# Altium footprint library PCB2.PcbLib: 56 footprints (part 4 of 4)
Each footprint in its own frame and in the unit in brackets; x right, y up, seen from the top. Pads: shape width x height; smd on the part's side, far side on the other; paste and mask are expansions set on the pad; w line width, h text height; cw(c..) or ccw(c..) is an arc to the next point about the centre after c.
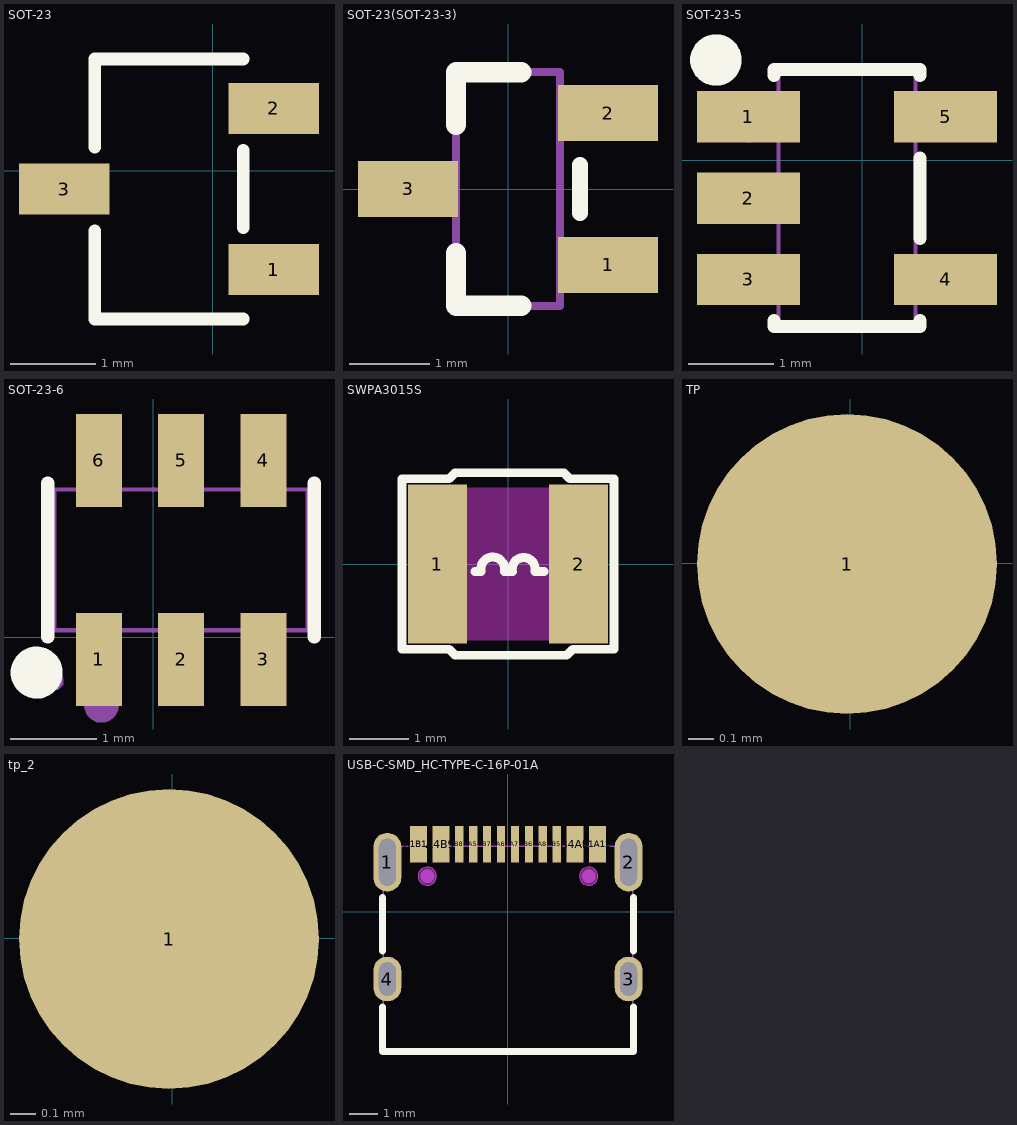
[diagram p3: the footprints below, top view; thin cyan lines are the x and y axes]

## SOT-23 [mm]
height 6.86
pads (3):
  rect 1.07x0.6 smd: 1(0.719,-1.166) 2(0.719,0.734) 3(-1.751,-0.216)
Top Overlay:
  lines w0.152: -1.392,-0.711 -1.392,-1.753 0.36,-1.753 ; -1.392,0.278 -1.392,1.32 0.36,1.32 ; 0.36,-0.672 0.36,0.239

## SOT-23(SOT-23-3) [mm]
height 6.86
pads (3):
  rect 1.25x0.7 smd: 1(1.25,-0.95) 2(1.25,0.95) 3(-1.25,0)
Top Overlay:
  lines w0.2: 0.9,-0.3 0.9,0.3
  lines w0.254: -0.65,-0.8 -0.65,-1.46 0.165,-1.46 ; 0.165,1.46 -0.65,1.46 ; -0.65,0.8 -0.65,1.46 ; -0.65,0.8 -0.65,1.46 ; -0.65,0.8 -0.65,1.46
Mechanical 13:
  lines w0.1: -0.65,-1.46 -0.65,1.46 ; -0.65,-1.46 0.65,-1.46 ; -0.65,-1.46 -0.65,1.46 ; -0.65,-1.46 0.65,-1.46 ; -0.65,-1.46 0.65,-1.46 ; -0.65,-1.46 -0.65,1.46 ; -0.65,1.46 0.65,1.46 ; -0.65,1.46 0.65,1.46 ; -0.65,1.46 0.65,1.46 ; 0.65,-1.46 0.65,1.46 ; 0.65,-1.46 0.65,1.46 ; 0.65,-1.46 0.65,1.46
3D body "SOT-23.step": height 1.3, standoff 0, extent -1.5,-1.5 1.5,1.5

## SOT-23-5 [mm]
height 6.86
pads (5):
  rect 1.2x0.6 smd paste+0 mask+0.05: 1(-1.325,0.51) 2(-1.325,-0.44) 3(-1.325,-1.39) 4(0.975,-1.39) 5(0.975,0.51)
Top Overlay:
  circle w0.3: c-1.704,1.171 r0.15
  lines w0.152: -1.025,-1.87 -1.025,-1.94 0.675,-1.94 0.675,-1.87 ; -1.025,0.99 -1.025,1.06 0.675,1.06 0.675,0.99 ; 0.675,-0.91 0.675,0.03
Mechanical 6:
  circle w0.3: c-1.325,0.51 r0.15
Mechanical 15:
  region: 1.225,-1.19 1.225,-1.59 0.775,-1.59 0.775,-1.19
  region: 0.785,-1.19 0.785,-1.59 0.615,-1.59 0.615,-1.19
  region: 1.225,0.71 1.225,0.31 0.775,0.31 0.775,0.71
  region: 0.785,0.71 0.785,0.31 0.615,0.31 0.615,0.71
  region: -1.125,0.71 -1.125,0.31 -1.575,0.31 -1.575,0.71
  region: -0.965,0.71 -0.965,0.31 -1.135,0.31 -1.135,0.71
  region: -1.125,-0.24 -1.125,-0.64 -1.575,-0.64 -1.575,-0.24
  region: -0.965,-0.24 -0.965,-0.64 -1.135,-0.64 -1.135,-0.24
  region: -1.125,-1.19 -1.125,-1.59 -1.575,-1.59 -1.575,-1.19
  region: -0.965,-1.19 -0.965,-1.59 -1.135,-1.59 -1.135,-1.19
  region: -1.635,1.01 -1.635,0.985 -1.6,0.95 -1.55,0.95 -1.515,0.985 -1.515,1.01 -1.515,1.035 -1.55,1.07 -1.6,1.07 -1.635,1.035
  lines w0.051: -0.975,-1.89 -0.975,1.01 0.625,1.01 0.625,-1.89 -0.975,-1.89

## SOT-23-6 [mm]
height 6.86
pads (6):
  rect 0.532x1.072 smd mask+0.051: 1(-0.63,-0.258) 2(0.32,-0.258) 3(1.27,-0.258) 4(1.27,2.04) 5(0.32,2.04) 6(-0.63,2.04)
Top Overlay:
  circle w0.3: c-1.348,-0.41 r0.15
  lines w0.152: -1.219,0.002 -1.219,1.78 ; 1.859,0.002 1.859,1.78
Mechanical 6:
  circle w0.2: c-0.6,-0.789 r0.1
Mechanical 15:
  region: -0.845,1.826 -0.415,1.826 -0.415,1.694 -0.845,1.694
  region: -0.845,1.816 -0.415,1.816 -0.415,2.291 -0.845,2.291
  region: 0.105,1.826 0.535,1.826 0.535,1.694 0.105,1.694
  region: 0.105,1.816 0.535,1.816 0.535,2.291 0.105,2.291
  region: 1.055,1.826 1.485,1.826 1.485,1.694 1.055,1.694
  region: 1.055,1.816 1.485,1.816 1.485,2.291 1.055,2.291
  region: 1.055,0.088 1.485,0.088 1.485,-0.044 1.055,-0.044
  region: 1.055,-0.034 1.485,-0.034 1.485,-0.509 1.055,-0.509
  region: 0.105,0.088 0.535,0.088 0.535,-0.044 0.105,-0.044
  region: 0.105,-0.034 0.535,-0.034 0.535,-0.509 0.105,-0.509
  region: -0.845,0.088 -0.415,0.088 -0.415,-0.044 -0.845,-0.044
  region: -0.845,-0.034 -0.415,-0.034 -0.415,-0.509 -0.845,-0.509
  region: -1.043,-0.509 -1.043,-0.467 -1.102,-0.409 -1.185,-0.409 -1.243,-0.467 -1.243,-0.509 -1.243,-0.55 -1.185,-0.609 -1.102,-0.609 -1.043,-0.55
  lines w0.051: -1.143,0.078 -1.143,1.704 1.783,1.704 1.783,0.078 -1.143,0.078

## SWPA3015S [mm]
height 6.86
pads (2):
  rect 1x2.7 smd: 1(-1.2,0) 2(1.2,0)
Top Layer keep-out:
  region: -1.7,1.3 1.7,1.3 1.7,-1.3 -1.7,-1.3
Top Overlay:
  lines w0.15: -1.8,-1.45 -1.8,1.45 -1,1.45 -0.9,1.55 0.95,1.55 1.05,1.45 1.8,1.45 1.8,-1.45 1.1,-1.45 1,-1.55 -0.9,-1.55 -1,-1.45 -1.8,-1.45
  lines w0.152: -0.559,-0.127 -0.457,-0.127 cw(c-0.26,-0.083) -0.063,-0.127 0.038,-0.127 ; -0.051,-0.127 0.076,-0.127 cw(c0.267,-0.085) 0.457,-0.127 0.61,-0.127

## TP [mm]
height 6.86
pads (1):
  round 1.2 smd: 1(-0.013,-0.003)

## tp_2 [mm]
pads (1):
  round 1.2 smd: 1(-0.013,-0.003)

## USB-C-SMD_HC-TYPE-C-16P-01A [mm]
height 6.86
pads (16):
  oval 1x2.1 hole 0.6 slot 1.7 at 90 deg: 1(-4.32,1.77) 2(4.32,1.77)
  oval 1x1.6 hole 0.6 slot 1.2 at 90 deg: 3(4.32,-2.41) 4(-4.32,-2.41)
  rect 0.6x1.3 smd: A1B12(-3.2,2.41) A4B9(-2.4,2.41) B1A12(3.2,2.41) B4A9(2.4,2.41)
  rect 0.3x1.3 smd: A5(-1.25,2.41) A6(-0.25,2.41) A7(0.25,2.41) A8(1.25,2.41) B5(1.75,2.41) B6(0.75,2.41) B7(-0.75,2.41) B8(-1.75,2.41)
Top Overlay:
  lines w0.254: -4.5,-3.418 -4.5,-5.01 4.5,-5.01 4.5,-3.418 ; -4.5,-1.401 -4.5,0.512 ; 4.5,-1.401 4.5,0.512
Top Paste:
  drawing of 16 lines, arcs and shapes, not listed
Keep-Out Layer:
  board cut-out: 2.89,0.938 2.763,0.964 2.656,1.035 2.584,1.143 2.559,1.27 2.584,1.397 2.656,1.504 2.763,1.576 2.89,1.601 3.017,1.576 3.124,1.504 3.196,1.397 3.221,1.27 3.196,1.143 3.124,1.035 3.017,0.964
  board cut-out: -2.89,0.939 -3.017,0.964 -3.124,1.036 -3.196,1.143 -3.221,1.27 -3.196,1.397 -3.124,1.504 -3.017,1.576 -2.89,1.601 -2.763,1.576 -2.656,1.504 -2.584,1.397 -2.559,1.27 -2.584,1.143 -2.656,1.036 -2.763,0.964
Keep-Out Layer:
  circle w0.005: c2.89,1.27 r0.325
  circle w0.005: c-2.89,1.27 r0.325
  region: 2.89,0.938 2.763,0.964 2.656,1.035 2.584,1.143 2.559,1.27 2.584,1.397 2.656,1.504 2.763,1.576 2.89,1.601 3.017,1.576 3.124,1.504 3.196,1.397 3.221,1.27 3.196,1.143 3.124,1.035 3.017,0.964
  region: -2.89,0.939 -3.017,0.964 -3.124,1.036 -3.196,1.143 -3.221,1.27 -3.196,1.397 -3.124,1.504 -3.017,1.576 -2.89,1.601 -2.763,1.576 -2.656,1.504 -2.584,1.397 -2.559,1.27 -2.584,1.143 -2.656,1.036 -2.763,0.964
Mechanical 1:
  circle w0.005: c2.89,1.27 r0.325
  circle w0.005: c-2.89,1.27 r0.325
Mechanical 6:
  circle w0.25: c-2.89,1.27 r0.125
  circle w0.25: c2.89,1.27 r0.125
Mechanical 15:
  region: -3.4,2.565 -3,2.565 -3,1.815 -3.4,1.815
  region: -2.6,2.565 -2.2,2.565 -2.2,1.815 -2.6,1.815
  region: 2.2,2.565 2.6,2.565 2.6,1.815 2.2,1.815
  region: 3,2.565 3.4,2.565 3.4,1.815 3,1.815
  region: -1.85,2.565 -1.65,2.565 -1.65,1.815 -1.85,1.815
  region: -1.35,2.565 -1.15,2.565 -1.15,1.815 -1.35,1.815
  region: -0.85,2.565 -0.65,2.565 -0.65,1.815 -0.85,1.815
  region: -0.35,2.565 -0.15,2.565 -0.15,1.815 -0.35,1.815
  region: 0.15,2.565 0.35,2.565 0.35,1.815 0.15,1.815
  region: 0.65,2.565 0.85,2.565 0.85,1.815 0.65,1.815
  region: 1.15,2.565 1.35,2.565 1.35,1.815 1.15,1.815
  region: 1.65,2.565 1.85,2.565 1.85,1.815 1.65,1.815
  region: 4.17,2.32 4.47,2.32 4.47,1.22 4.17,1.22
  region: -4.47,2.32 -4.17,2.32 -4.17,1.22 -4.47,1.22
  region: -4.47,-2.01 -4.17,-2.01 -4.17,-2.81 -4.47,-2.81
  region: 4.17,-2.01 4.47,-2.01 4.47,-2.81 4.17,-2.81
  region: -4.47,2.499 -4.516,2.519 -4.535,2.564 -4.516,2.61 -4.47,2.629 -4.424,2.61 -4.405,2.564 -4.424,2.519
  lines w0.051: -4.47,-5.015 4.47,-5.015 4.47,2.335 -4.47,2.335 -4.47,-5.015